# Altium schematic symbol library MT_Library.SchLib: 5 symbols
Pins are listed as number, name and electrical type; pins without a type are passive.

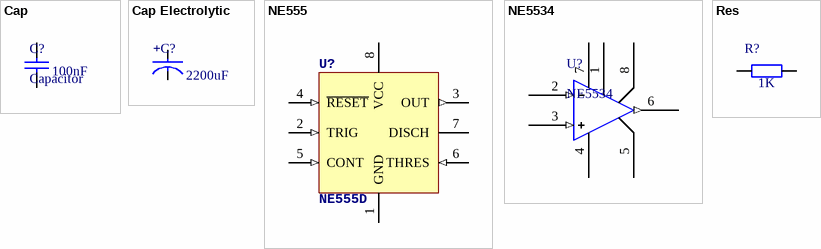
[diagram p0: symbols Cap to Res]

## Cap
designator C?, comment Capacitor  Capacitance: 100nF
footprint 0603
pins: 1, 2

## Cap Electrolytic
designator C?  Capacitance: 2200uF
CAPACITOR ALUM 2200UF 20% 35V RADIAL
footprint 18 X 25mm Radial 7.5mm ((18 X 25mm) Radial 7.5mm Cap Aluminum 2200uF 35V 20% 2740mA 5000h 105°C Ammo Pack)
pins: 1 -, 2 +

## NE555
designator U?, comment NE555D
Precision Timer, 4.5 to 16 V, 0 to 70 degC, 8-Pin SOIC (D), Green (RoHS & no Sb/Br), Tube; PartNumber: NE555; Manufacturer: Texas Instruments; Base Number: 555; No. of Timers: 1; Supply Voltage Min: 4.5V; Operating Frequency Max: 0.5MHz; Supply Voltage Range: 4.5Vto16V; No. of Pins: 8; Supply Voltage Max: 16V; IC Temperature Range: Commercial; SVHC: NoSVHC(19-Dec-2012); Operating Mode: Astable,Monostable; Frequency: 500kHz; Package Description: 8-Pin Small Outline Integrated Circuit, Body 4.9 x 3.9 mm, Pitch 1.27 mm; Datasheet URL: http://www.ti.com/general/docs/lit/getliterature.tsp?genericPartNumber=NE555&fileType=pdf; Mounting Technology: SurfaceMount; Operating Temperature Range: 0°Cto+70°C; Operating Temperature Min: 0°C; Package URL: http://www.ti.com/lit/ml/msoi002j/msoi002j.pdf; Datasheet Version: Rev. I, 09/2014; Manufacturer URL: http://www.ti.com/; Digital IC Case Style: SOIC; Clock External Input: No; Logic Function Number: 555; IC Generic Number: 555; No. of Channels: 1; Operating Temperature Max: 70°C; Package / Case: SOIC; Package Reference: D8; Device Marking: NE555D
footprint D0008A_L (SOIC, 8-Leads, Body 5x4mm, Pitch 1.27mm, IPC High Density)
footprint D0008A_M (SOIC, 8-Leads, Body 5x4mm, Pitch 1.27mm, IPC Low Density)
footprint D0008A_N (SOIC, 8-Leads, Body 5x4mm, Pitch 1.27mm, IPC Medium Density)
pins: 1 GND (power) "Ground", 2 TRIG (in) "Start of timing input.", 3 OUT (out) "High current timer output signal", 4 ~{RESET} (in) "Active low reset input forces output and discharge low.", 5 CONT (in) "Controls comparator thresholds, Outputs 2/3 VCC, allows bypass capacitor connection", 6 THRES (in) "End of timing input.", 7 DISCH (oc) "Open collector output to discharge timing capacitor", 8 VCC (power) "Input supply voltage, 4.5 V to 16 V."

## NE5534
designator U?
pins: 1 BALANCE, 2 IN- (in), 3 IN+ (in), 4 VCC- (power), 5 COMP, 6 OUT (out), 7 VCC+ (power), 8 COMP/BAL

## Res
designator R?, comment value 1K  (hidden comment: Resistor)
footprint R1206
footprint R0201
footprint R0402
footprint R0603
footprint R0805
pins: 1, 2